# EAGLE library part IL715 (library NASA_LIB)
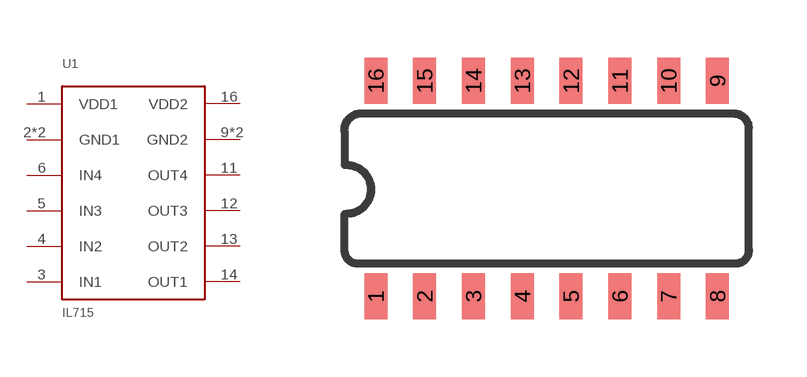
[diagram p28: symbol with the pads of S016; footprint S016]

Designator prefix U1

## IL715  [S016]
1  VDD1
2  GND1
3  IN1
4  IN2
5  IN3
6  IN4
8  GND1
9  GND2
11  OUT4
12  OUT3
13  OUT2
14  OUT1
15  GND2
16  VDD2

## Footprint S016 (pad centres in mm)
smd 0.6 x 1.2: 1 -4.445,-2.8; 2 -3.175,-2.8; 3 -1.905,-2.8; 4 -0.635,-2.8; 5 0.635,-2.8; 6 1.905,-2.8; 7 3.175,-2.8; 8 4.445,-2.8; 9 4.445,2.8; 10 3.175,2.8; 11 1.905,2.8; 12 0.635,2.8; 13 -0.635,2.8; 14 -1.905,2.8; 15 -3.175,2.8; 16 -4.445,2.8